# EAGLE library part PIC12F1822 (library MyLibrary)
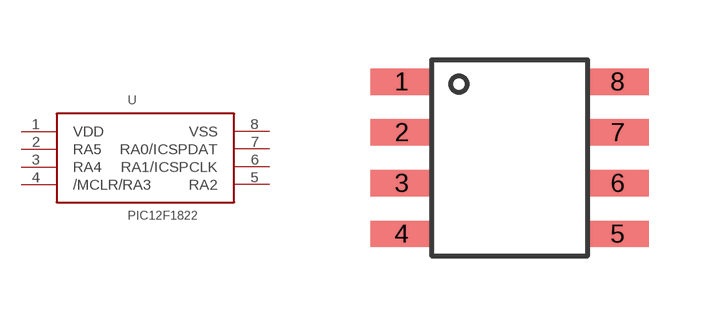
[diagram p26: symbol with the pads of SOIC-8-PIC; footprint SOIC-8-PIC]

Designator prefix -

## PIC12F1822  [SOIC-8-PIC]
1  VDD
2  RA5
3  RA4
4  /MCLR/RA3
5  RA2
6  RA1/ICSPCLK
7  RA0/ICSPDAT
8  VSS

## Footprint SOIC-8-PIC (pad centres in mm)
smd 1.55 x 0.66: 1 -2.7,1.905; 2 -2.7,0.635; 3 -2.7,-0.635; 4 -2.7,-1.905; 5 2.7,-1.905; 6 2.7,-0.635; 7 2.7,0.635; 8 2.7,1.905